# Altium footprint library ACM2012-900-2P-T002.PcbLib: 1 footprints
Each footprint in its own frame and in the unit in brackets; x right, y up, seen from the top. Pads: shape width x height; smd on the part's side, far side on the other; paste and mask are expansions set on the pad; w line width, h text height; cw(c..) or ccw(c..) is an arc to the next point about the centre after c.
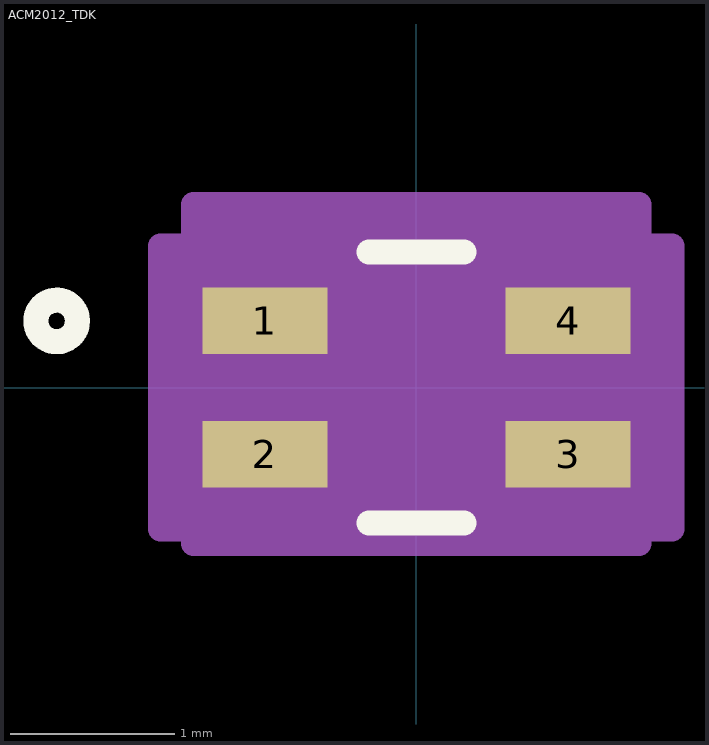
[diagram p0: the footprint, top view; thin cyan lines are the x and y axes]

## ACM2012_TDK [mil]
pads (4):
  rect 30x16 smd paste-8 mask+0: 1(-36.42,16) 2(-36.42,-16) 3(36.42,-16) 4(36.42,16)
Top Overlay:
  circle w6: c-86.42,16 r5
  lines w6: -11.45,-32.5 11.45,-32.5 ; -11.45,32.5 11.45,32.5
Mechanical 13:
  circle w0: c-21.42,16 r3
  lines w0: -12,27.5 ccw(c0,27.5) 12,27.5
  lines w1: -43.5,-27.5 43.5,-27.5 43.5,27.5 -43.5,27.5 -43.5,-27.5
Mechanical 15:
  region: -53.5,-34 -61.42,-34 -61.42,34 -53.5,34 -53.5,44 53.5,44 53.5,34 61.42,34 61.42,-34 53.5,-34 53.5,-37.5 -53.5,-37.5
  lines w6: -61.42,-34 -61.42,34 -53.5,34 -53.5,44 53.5,44 53.5,34 61.42,34 61.42,-34 53.5,-34 53.5,-37.5 -53.5,-37.5 -53.5,-34 -61.42,-34
3D body "ACM2012_TDK.step": height 51.1, standoff 0, extent -43.5,-27.48 43.5,27.48